# Altium schematic symbol library SN74HC595PWR.Schlib: 1 symbol
Pins are listed as number, name and electrical type; pins without a type are passive.

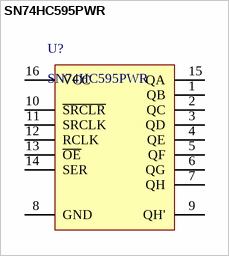
[diagram p0: symbol SN74HC595PWR]

## SN74HC595PWR
designator U?
IC 8BIT SHIFT REGISTER 16-TSSOP
pins: 1 QB, 2 QC, 3 QD, 4 QE, 5 QF, 6 QG, 7 QH, 8 GND, 9 QH', 10 ~{SRCLR}, 11 SRCLK, 12 RCLK, 13 ~{OE}, 14 SER, 15 QA, 16 VCC